# Altium footprint library Conn_other.PcbLib: 1 footprints
Each footprint in its own frame and in the unit in brackets; x right, y up, seen from the top. Pads: shape width x height; smd on the part's side, far side on the other; paste and mask are expansions set on the pad; w line width, h text height; cw(c..) or ccw(c..) is an arc to the next point about the centre after c.
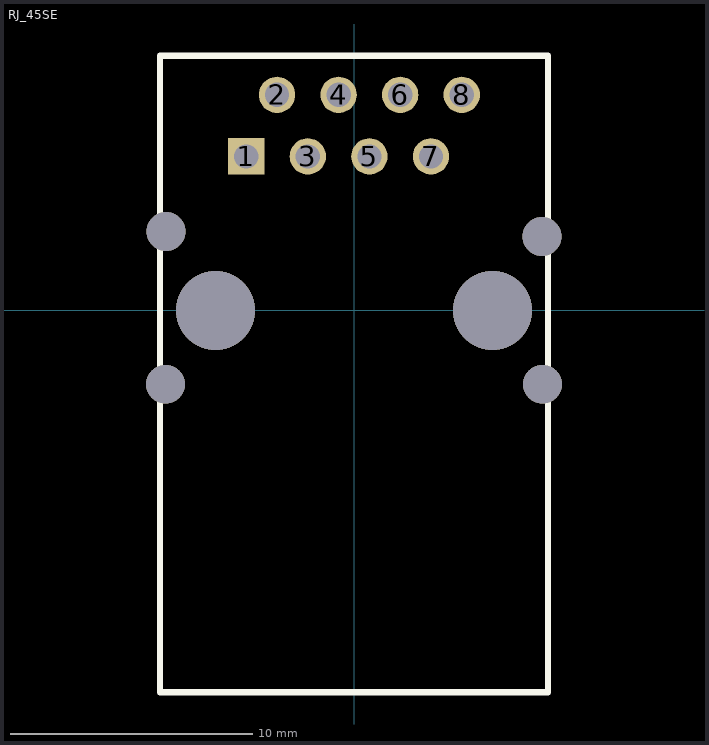
[diagram p0: the footprint, top view; thin cyan lines are the x and y axes]

## RJ_45SE [mm]
pads (8):
  rect 1.5x1.5 hole 1: 1(-4.445,6.35)
  round 1.5 hole 1: 2(-3.175,8.89) 3(-1.905,6.35) 4(-0.634,8.89) 5(0.635,6.35) 6(1.905,8.89) 7(3.175,6.35) 8(4.445,8.89)
via 7.77,-3.05 diameter 1.6 hole 1.6
via -7.77,-3.05 diameter 1.6 hole 1.6
via -7.75,3.25 diameter 1.6 hole 1.6
via 7.75,3.05 diameter 1.6 hole 1.6
via 5.715,0 diameter 3.25 hole 3.25
via -5.715,0 diameter 3.25 hole 3.25
Top Overlay:
  lines w0.254: -8,-15.75 -8,10.5 8,10.5 8,-15.75 -8,-15.75
3D body: height 13.64, standoff 0, extent -8,-15.75 8,10.5